# EAGLE library part DSPIC33EPXXXGP502 (library kotuku)
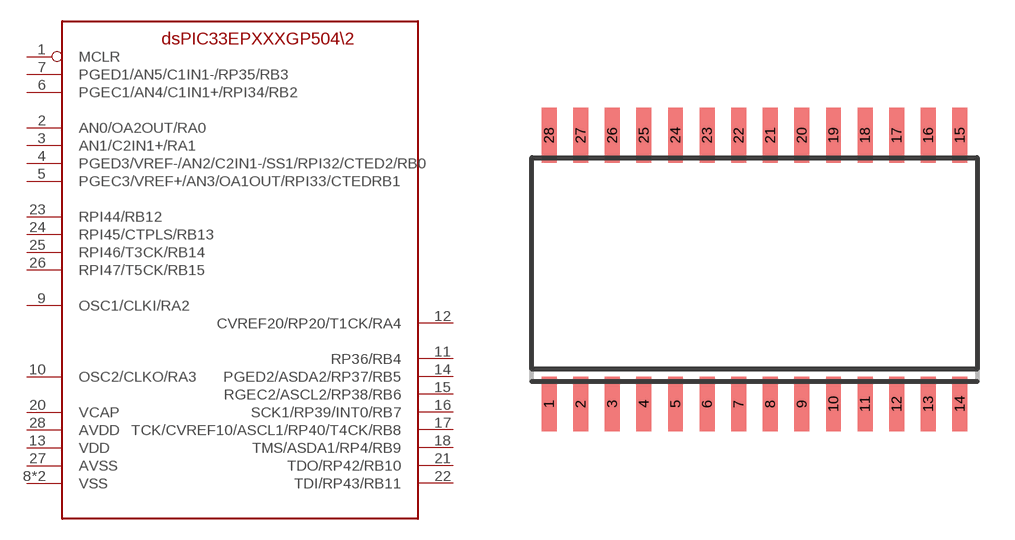
[diagram p15: symbol with the pads of SOIC-28; footprint SOIC-28]

Designator prefix -

## DSPIC33EPXXXGP502  [SOIC-28]
1  MCLR  in
2  AN0/OA2OUT/RA0
3  AN1/C2IN1+/RA1
4  PGED3/VREF-/AN2/C2IN1-/SS1/RPI32/CTED2/RB0
5  PGEC3/VREF+/AN3/OA1OUT/RPI33/CTEDRB1
6  PGEC1/AN4/C1IN1+/RPI34/RB2
7  PGED1/AN5/C1IN1-/RP35/RB3
8  VSS
9  OSC1/CLKI/RA2
10  OSC2/CLKO/RA3
11  RP36/RB4
12  CVREF20/RP20/T1CK/RA4
13  VDD
14  PGED2/ASDA2/RP37/RB5
15  RGEC2/ASCL2/RP38/RB6
16  SCK1/RP39/INT0/RB7
17  TCK/CVREF10/ASCL1/RP40/T4CK/RB8
18  TMS/ASDA1/RP4/RB9
19  VSS
20  VCAP
21  TDO/RP42/RB10
22  TDI/RP43/RB11
23  RPI44/RB12
24  RPI45/CTPLS/RB13
25  RPI46/T3CK/RB14
26  RPI47/T5CK/RB15
27  AVSS
28  AVDD

## Footprint SOIC-28 (pad centres in mm)
smd 0.6 x 2.2: 1 -8.255,-5.4; 2 -6.985,-5.4; 3 -5.715,-5.4; 4 -4.445,-5.4; 5 -3.175,-5.4; 6 -1.905,-5.4; 7 -0.635,-5.4; 8 0.635,-5.4; 9 1.905,-5.4; 10 3.175,-5.4; 11 4.445,-5.4; 12 5.715,-5.4; 13 6.985,-5.4; 14 8.255,-5.4; 15 8.255,5.4; 16 6.985,5.4; 17 5.715,5.4; 18 4.445,5.4; 19 3.175,5.4; 20 1.905,5.4; 21 0.635,5.4; 22 -0.635,5.4; 23 -1.905,5.4; 24 -3.175,5.4; 25 -4.445,5.4; 26 -5.715,5.4; 27 -6.985,5.4; 28 -8.255,5.4